# EAGLE library part ACS722LC (library motor-drivers)
High Accuracy, Galvanically isolated current sensor IC with selectable BW
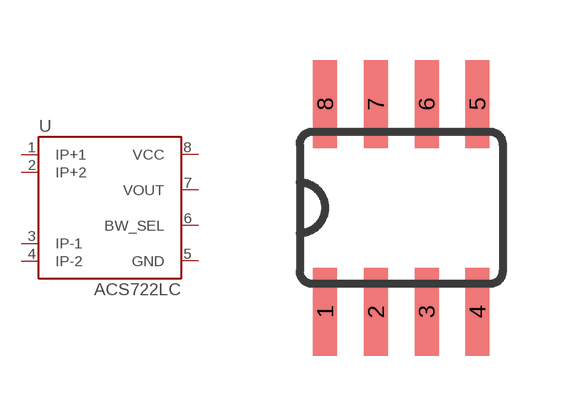
[diagram p3: symbol with the pads of SOIC8; footprint SOIC8]

Designator prefix U

## ACS722LC (REVIEWED: NO; TESTED: NO), ACS722LC_05AB (MF: Allegro Microsystems; MPN: ACS722LLCTR-05AB-T), ACS722LC_10AB (MF: Allegro Microsystems; MPN: ACS722LLCTR-10AB-T), ACS722LC_10AU (MF: Allegro Microsystems; MPN: ACS722LLCTR-10AU-T), ACS722LC_20AB (MF: Allegro Microsystems; MPN: ACS722LLCTR-20AB-T), ACS722LC_20AU (MF: Allegro Microsystems; MPN: ACS722LLCTR-20AU-T), ACS722LC_40AB (MF: Allegro Microsystems; MPN: ACS722LLCTR-40AB-T), ACS722LC_40AU (MF: Allegro Microsystems; MPN: ACS722LLCTR-40AU-T)  [SOIC8]
1  IP+1
2  IP+2
3  IP-1
4  IP-2
5  GND
6  BW_SEL
7  VOUT
8  VCC

## Footprint SOIC8 (pad centres in mm)
smd 0.6 x 2.2: 1 -1.905,-2.6; 2 -0.635,-2.6; 3 0.635,-2.6; 4 1.905,-2.6; 5 1.905,2.6; 6 0.635,2.6; 7 -0.635,2.6; 8 -1.905,2.6